# Altium integrated library TI Data Converters Analog to Digital Converter.IntLib: 2197 symbols (part 27 of 168)
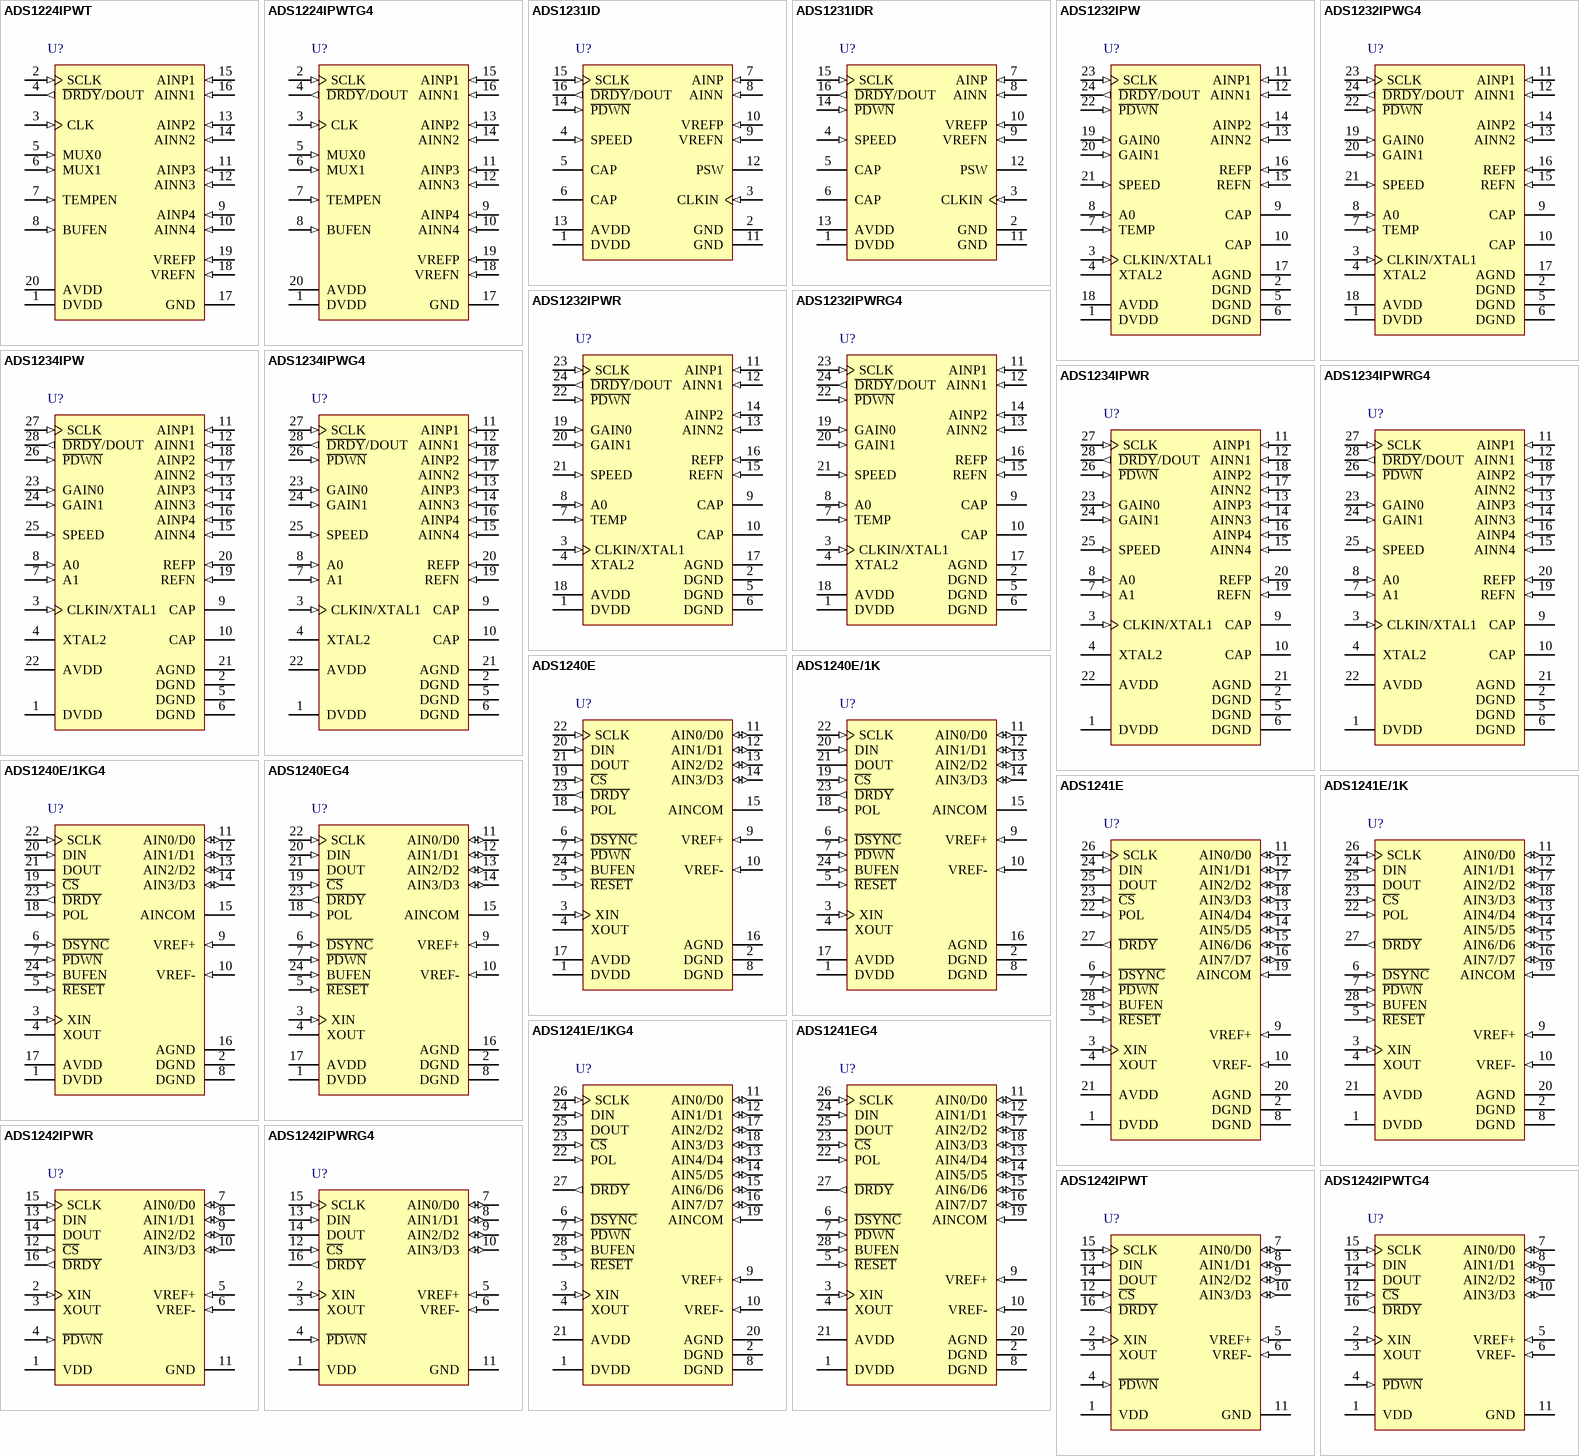
[diagram p152: symbols ADS1224IPWT to ADS1242IPWTG4]

## ADS1242IPWTG4
designator U?
24-Bit ADC, 4 Channel, PGA 1:128, 50 / 60 Hz Notch, 0.6 mW Power Consumption, -40 to 85 degC, 16-pin SOP (PW16), Green (RoHS & no Sb/Br); Manufacturer: Texas Instruments; PartNumber: ADS1242IPWTG4; # Input Channels: 4; Analog Voltage AV/DD(Max)(V): 5.25; Analog Voltage AV/DD(Min)(V): 2.7; Architecture: Delta-Sigma; Interface: Serial SPI; Resolution(Bits): 24; Sample Rate (max)(SPS): 15; SubFamily: Precision ADC (<=10MSPS); DatasheetVersion: SBAS235G; PackageVersion: 4040064-4/G, 02/2011; PackageReference: PW16; PackageDescription: 16-Pin Plastic Small Outline, Body 5 x 4.4 mm, Pitch 0.65 mm; Supplier 1: Digi-Key; Supplier Part Number 1: TLC3544CPWRG4-ND; Supplier 2: Mouser; Supplier Part Number 2: 595-TLC3544CPWRG4; Digital Supply(Max)(V): 5.25; Digital Supply(Min)(V): 2.7; Eco-Plan: Green (RoHS & no Sb/Br); Mounting Technology: Surface Mount; Code_JEDEC: MO-153; ComponentLink1Description: Manufacturer URL; ComponentLink1URL: http://www.ti.com/; ComponentLink2Description: Datasheet; ComponentLink2URL: http://www.ti.com/general/docs/lit/getliterature.tsp?genericPartNumber=ADS1242&fileType=pdf; ComponentLink3Description: Package Specification; ComponentLink3URL: http://www.ti.com/lit/ml/mpds361/mpds361.pdf
footprint TI-PW16_N (SOP, 16-Leads, Body 5x4.4mm, Pitch 0.65mm, IPC Medium Density)
footprint TI-PW16_L (SOP, 16-Leads, Body 5x4.4mm, Pitch 0.65mm, IPC High Density)
footprint TI-PW16_M (SOP, 16-Leads, Body 5x4.4mm, Pitch 0.65mm, IPC Low Density)
pins: 1 VDD (power) "Power Supply", 2 XIN (in) "Clock Input", 3 XOUT "Clock Output, used with crystal or ceramic resonator", 4 ~{PDWN} (in) "Active LOW. Power Down. The power down function shuts down the analog and digital circuits", 5 VREF+ (in) "Positive Differential Reference Input", 6 VREF- (in) "Negative Differential Reference Input", 7 AIN0/D0 (io) "Analog Input 0/Data I/O 0", 8 AIN1/D1 (io) "Analog Input 1/Data I/O 1", 9 AIN2/D2 (io) "Analog Input 2/Data I/O 2", 10 AIN3/D3 (io) "Analog Input 3/Data I/O 3", 11 GND (power) "Ground", 12 ~{CS} (in) "Active LOW, Chip Select", 13 DIN (in) "Serial Data Input, Schmitt Trigger", 14 DOUT (hiz) "Serial Data Output", 15 SCLK (in) "Serial Clock, Schmitt Trigger", 16 ~{DRDY} (out) "Active LOW, Data Ready"

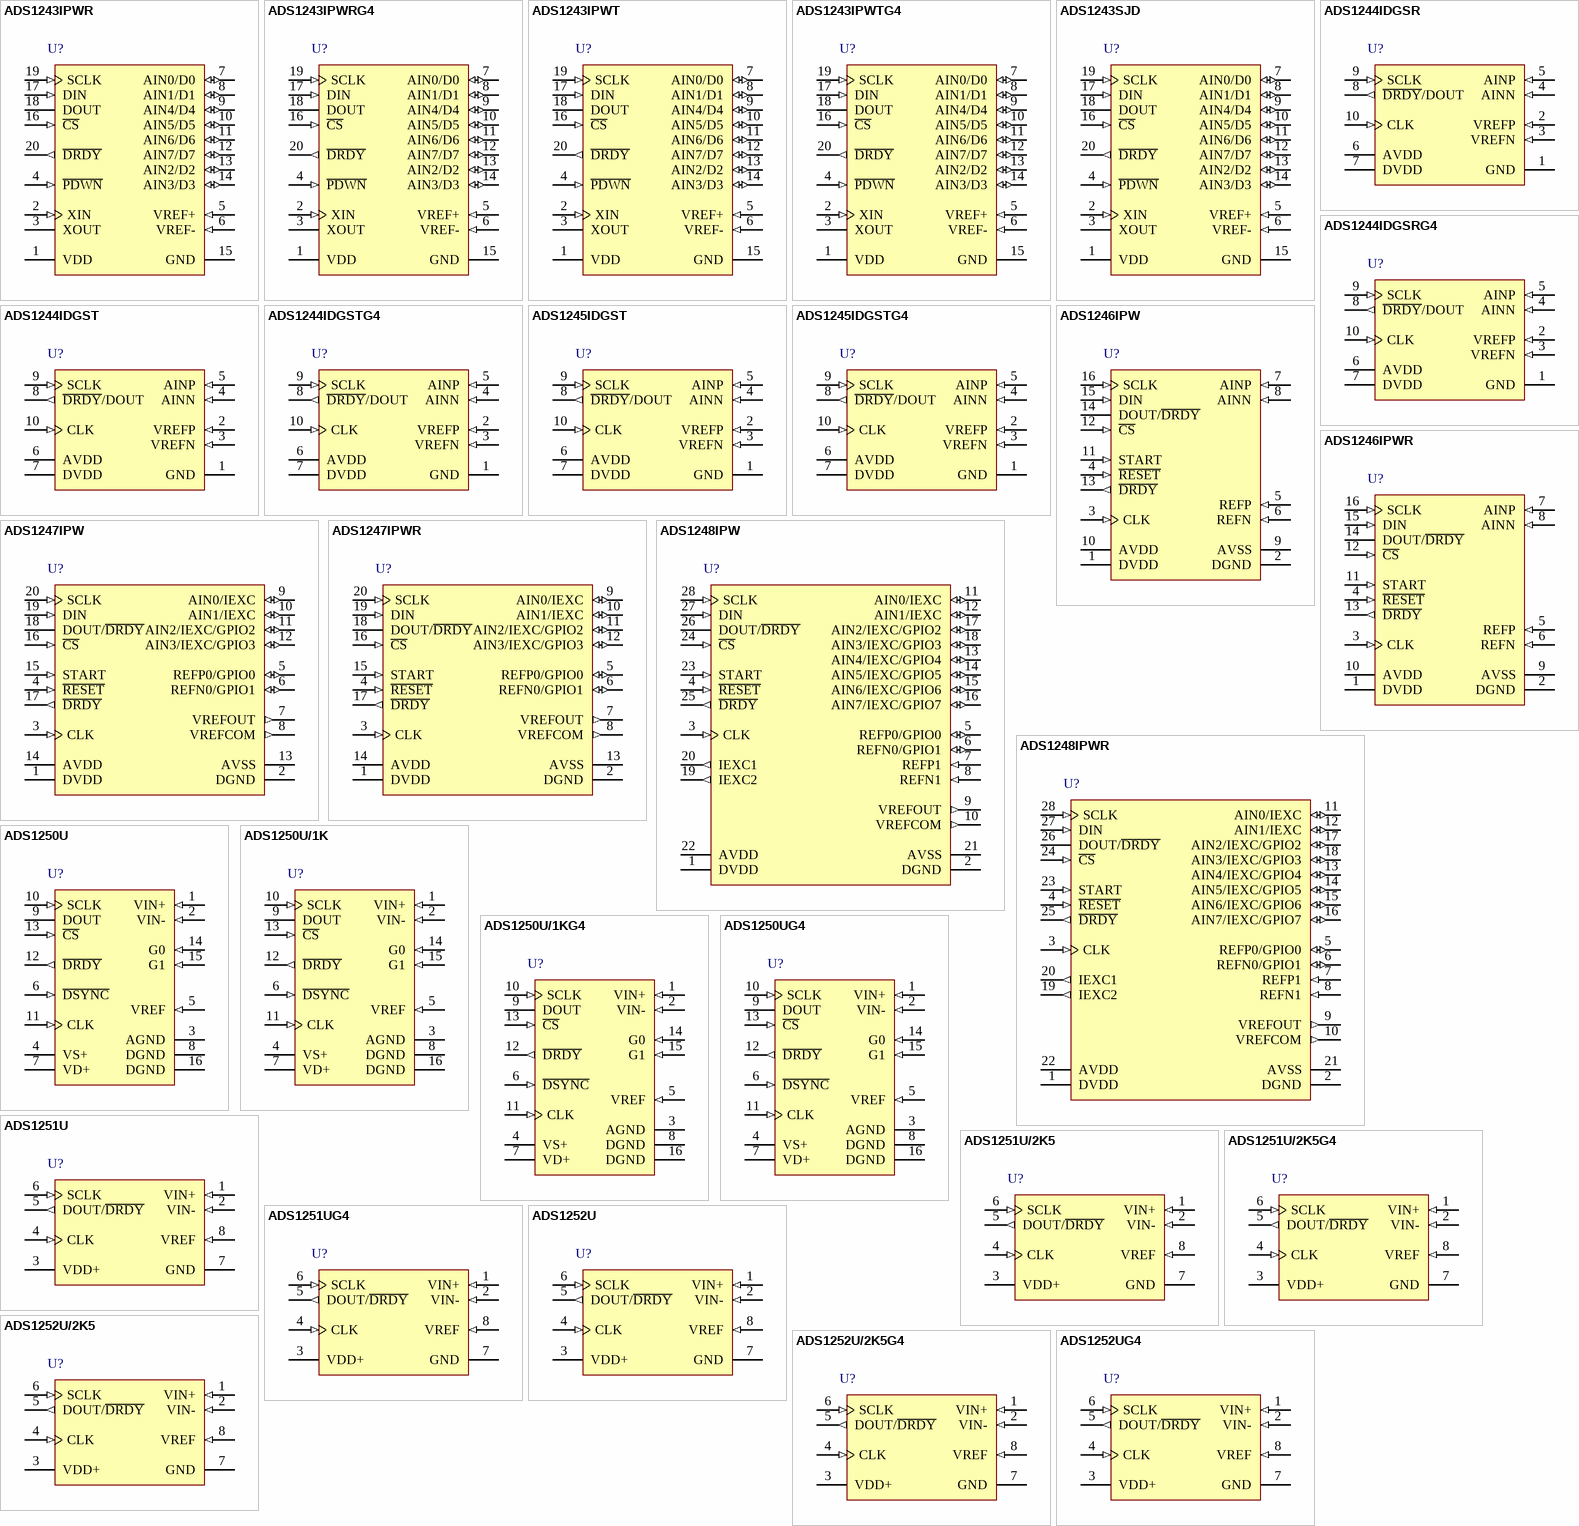
[diagram p21: symbols ADS1243IPWR to ADS1252UG4]

## ADS1243IPWR
designator U?
24-Bit ADC, 8 Channel, PGA 1:128, 50 / 60 Hz Notch, 0.6 mW Power Consumption, -40 to 85 degC, 20-pin SOP (PW20), Green (RoHS & no Sb/Br); Manufacturer: Texas Instruments; PartNumber: ADS1243IPWR; # Input Channels: 8; Analog Voltage AV/DD(Max)(V): 5.25; Analog Voltage AV/DD(Min)(V): 2.7; Architecture: Delta-Sigma; Interface: Serial SPI; Resolution(Bits): 24; Sample Rate (max)(SPS): 15; SubFamily: Precision ADC (<=10MSPS); DatasheetVersion: SBAS235G; PackageVersion: 4040064-5/G, 02/2011; PackageReference: PW20; PackageDescription: 20-Pin Plastic Small Outline, Body 6.5 x 4.4 mm, Pitch 0.65 mm; Supplier 1: Digi-Key; Supplier Part Number 1: 296-10289-5-ND; Supplier 2: Mouser; Supplier Part Number 2: 595-TLC3544IPW; Digital Supply(Max)(V): 5.25; Digital Supply(Min)(V): 2.7; Eco-Plan: Green (RoHS & no Sb/Br); Mounting Technology: Surface Mount; Code_JEDEC: MO-153; ComponentLink1Description: Manufacturer URL; ComponentLink1URL: http://www.ti.com/; ComponentLink2Description: Datasheet; ComponentLink2URL: http://www.ti.com/general/docs/lit/getliterature.tsp?genericPartNumber=ADS1243&fileType=pdf; ComponentLink3Description: Package Specification; ComponentLink3URL: http://www.ti.com.cn/cn/lit/ml/mpds362/mpds362.pdf
footprint TI-PW20_N (SOP, 20-Leads, Body 6.5x4.4mm, Pitch 0.65mm, IPC Medium Density)
footprint TI-PW20_L (SOP, 20-Leads, Body 6.5x4.4mm, Pitch 0.65mm, IPC High Density)
footprint TI-PW20_M (SOP, 20-Leads, Body 6.5x4.4mm, Pitch 0.65mm, IPC Low Density)
pins: 1 VDD (power) "Power Supply", 2 XIN (in) "Clock Input", 3 XOUT "Clock Output, used with crystal or ceramic resonator", 4 ~{PDWN} (in) "Active LOW. Power Down. The power down function shuts down the analog and digital circuits", 5 VREF+ (in) "Positive Differential Reference Input", 6 VREF- (in) "Negative Differential Reference Input", 7 AIN0/D0 (io) "Analog Input 0/Data I/O 0", 8 AIN1/D1 (io) "Analog Input 1/Data I/O 1", 9 AIN4/D4 (io) "Analog Input 4/Data I/O 4", 10 AIN5/D5 (io) "Analog Input 5/Data I/O 5", 11 AIN6/D6 (io) "Analog Input 6/Data I/O 6", 12 AIN7/D7 (io) "Analog Input 7/Data I/O 7", 13 AIN2/D2 (io) "Analog Input 2/Data I/O 2", 14 AIN3/D3 (io) "Analog Input 3/Data I/O 3", 15 GND (power) "Ground", 16 ~{CS} (in) "Active LOW, Chip Select", 17 DIN (in) "Serial Data Input, Schmitt Trigger", 18 DOUT (hiz) "Serial Data Output", 19 SCLK (in) "Serial Clock, Schmitt Trigger", 20 ~{DRDY} (out) "Active LOW, Data Ready"

## ADS1243IPWRG4
designator U?
24-Bit ADC, 8 Channel, PGA 1:128, 50 / 60 Hz Notch, 0.6 mW Power Consumption, -40 to 85 degC, 20-pin SOP (PW20), Green (RoHS & no Sb/Br); Manufacturer: Texas Instruments; PartNumber: ADS1243IPWRG4; # Input Channels: 8; Analog Voltage AV/DD(Max)(V): 5.25; Analog Voltage AV/DD(Min)(V): 2.7; Architecture: Delta-Sigma; Interface: Serial SPI; Resolution(Bits): 24; Sample Rate (max)(SPS): 15; SubFamily: Precision ADC (<=10MSPS); DatasheetVersion: SBAS235G; PackageVersion: 4040064-5/G, 02/2011; PackageReference: PW20; PackageDescription: 20-Pin Plastic Small Outline, Body 6.5 x 4.4 mm, Pitch 0.65 mm; Supplier 1: Digi-Key; Supplier Part Number 1: TLC3544IPWG4-ND; Supplier 2: Mouser; Supplier Part Number 2: 595-TLC3544IPWG4; Digital Supply(Max)(V): 5.25; Digital Supply(Min)(V): 2.7; Eco-Plan: Green (RoHS & no Sb/Br); Mounting Technology: Surface Mount; Code_JEDEC: MO-153; ComponentLink1Description: Manufacturer URL; ComponentLink1URL: http://www.ti.com/; ComponentLink2Description: Datasheet; ComponentLink2URL: http://www.ti.com/general/docs/lit/getliterature.tsp?genericPartNumber=ADS1243&fileType=pdf; ComponentLink3Description: Package Specification; ComponentLink3URL: http://www.ti.com.cn/cn/lit/ml/mpds362/mpds362.pdf
footprint TI-PW20_N (SOP, 20-Leads, Body 6.5x4.4mm, Pitch 0.65mm, IPC Medium Density)
footprint TI-PW20_L (SOP, 20-Leads, Body 6.5x4.4mm, Pitch 0.65mm, IPC High Density)
footprint TI-PW20_M (SOP, 20-Leads, Body 6.5x4.4mm, Pitch 0.65mm, IPC Low Density)
pins: 1 VDD (power) "Power Supply", 2 XIN (in) "Clock Input", 3 XOUT "Clock Output, used with crystal or ceramic resonator", 4 ~{PDWN} (in) "Active LOW. Power Down. The power down function shuts down the analog and digital circuits", 5 VREF+ (in) "Positive Differential Reference Input", 6 VREF- (in) "Negative Differential Reference Input", 7 AIN0/D0 (io) "Analog Input 0/Data I/O 0", 8 AIN1/D1 (io) "Analog Input 1/Data I/O 1", 9 AIN4/D4 (io) "Analog Input 4/Data I/O 4", 10 AIN5/D5 (io) "Analog Input 5/Data I/O 5", 11 AIN6/D6 (io) "Analog Input 6/Data I/O 6", 12 AIN7/D7 (io) "Analog Input 7/Data I/O 7", 13 AIN2/D2 (io) "Analog Input 2/Data I/O 2", 14 AIN3/D3 (io) "Analog Input 3/Data I/O 3", 15 GND (power) "Ground", 16 ~{CS} (in) "Active LOW, Chip Select", 17 DIN (in) "Serial Data Input, Schmitt Trigger", 18 DOUT (hiz) "Serial Data Output", 19 SCLK (in) "Serial Clock, Schmitt Trigger", 20 ~{DRDY} (out) "Active LOW, Data Ready"

## ADS1243IPWT
designator U?
24-Bit ADC, 8 Channel, PGA 1:128, 50 / 60 Hz Notch, 0.6 mW Power Consumption, -40 to 85 degC, 20-pin SOP (PW20), Green (RoHS & no Sb/Br); Manufacturer: Texas Instruments; PartNumber: ADS1243IPWT; # Input Channels: 8; Analog Voltage AV/DD(Max)(V): 5.25; Analog Voltage AV/DD(Min)(V): 2.7; Architecture: Delta-Sigma; Interface: Serial SPI; Resolution(Bits): 24; Sample Rate (max)(SPS): 15; SubFamily: Precision ADC (<=10MSPS); DatasheetVersion: SBAS235G; PackageVersion: 4040064-5/G, 02/2011; PackageReference: PW20; PackageDescription: 20-Pin Plastic Small Outline, Body 6.5 x 4.4 mm, Pitch 0.65 mm; Supplier 1: Digi-Key; Supplier Part Number 1: 296-2871-5-ND; Supplier 2: Mouser; Supplier Part Number 2: 595-TLC1518IPW; Digital Supply(Max)(V): 5.25; Digital Supply(Min)(V): 2.7; Eco-Plan: Green (RoHS & no Sb/Br); Mounting Technology: Surface Mount; Code_JEDEC: MO-153; ComponentLink1Description: Manufacturer URL; ComponentLink1URL: http://www.ti.com/; ComponentLink2Description: Datasheet; ComponentLink2URL: http://www.ti.com/general/docs/lit/getliterature.tsp?genericPartNumber=ADS1243&fileType=pdf; ComponentLink3Description: Package Specification; ComponentLink3URL: http://www.ti.com.cn/cn/lit/ml/mpds362/mpds362.pdf
footprint TI-PW20_N (SOP, 20-Leads, Body 6.5x4.4mm, Pitch 0.65mm, IPC Medium Density)
footprint TI-PW20_L (SOP, 20-Leads, Body 6.5x4.4mm, Pitch 0.65mm, IPC High Density)
footprint TI-PW20_M (SOP, 20-Leads, Body 6.5x4.4mm, Pitch 0.65mm, IPC Low Density)
pins: 1 VDD (power) "Power Supply", 2 XIN (in) "Clock Input", 3 XOUT "Clock Output, used with crystal or ceramic resonator", 4 ~{PDWN} (in) "Active LOW. Power Down. The power down function shuts down the analog and digital circuits", 5 VREF+ (in) "Positive Differential Reference Input", 6 VREF- (in) "Negative Differential Reference Input", 7 AIN0/D0 (io) "Analog Input 0/Data I/O 0", 8 AIN1/D1 (io) "Analog Input 1/Data I/O 1", 9 AIN4/D4 (io) "Analog Input 4/Data I/O 4", 10 AIN5/D5 (io) "Analog Input 5/Data I/O 5", 11 AIN6/D6 (io) "Analog Input 6/Data I/O 6", 12 AIN7/D7 (io) "Analog Input 7/Data I/O 7", 13 AIN2/D2 (io) "Analog Input 2/Data I/O 2", 14 AIN3/D3 (io) "Analog Input 3/Data I/O 3", 15 GND (power) "Ground", 16 ~{CS} (in) "Active LOW, Chip Select", 17 DIN (in) "Serial Data Input, Schmitt Trigger", 18 DOUT (hiz) "Serial Data Output", 19 SCLK (in) "Serial Clock, Schmitt Trigger", 20 ~{DRDY} (out) "Active LOW, Data Ready"

## ADS1243IPWTG4
designator U?
24-Bit ADC, 8 Channel, PGA 1:128, 50 / 60 Hz Notch, 0.6 mW Power Consumption, -40 to 85 degC, 20-pin SOP (PW20), Green (RoHS & no Sb/Br); Manufacturer: Texas Instruments; PartNumber: ADS1243IPWTG4; # Input Channels: 8; Analog Voltage AV/DD(Max)(V): 5.25; Analog Voltage AV/DD(Min)(V): 2.7; Architecture: Delta-Sigma; Interface: Serial SPI; Resolution(Bits): 24; Sample Rate (max)(SPS): 15; SubFamily: Precision ADC (<=10MSPS); DatasheetVersion: SBAS235G; PackageVersion: 4040064-5/G, 02/2011; PackageReference: PW20; PackageDescription: 20-Pin Plastic Small Outline, Body 6.5 x 4.4 mm, Pitch 0.65 mm; Supplier 1: Digi-Key; Supplier Part Number 1: TLC1518IPWG4-ND; Supplier 2: Mouser; Supplier Part Number 2: 595-TLC1518IPWG4; Digital Supply(Max)(V): 5.25; Digital Supply(Min)(V): 2.7; Eco-Plan: Green (RoHS & no Sb/Br); Mounting Technology: Surface Mount; Code_JEDEC: MO-153; ComponentLink1Description: Manufacturer URL; ComponentLink1URL: http://www.ti.com/; ComponentLink2Description: Datasheet; ComponentLink2URL: http://www.ti.com/general/docs/lit/getliterature.tsp?genericPartNumber=ADS1243&fileType=pdf; ComponentLink3Description: Package Specification; ComponentLink3URL: http://www.ti.com.cn/cn/lit/ml/mpds362/mpds362.pdf
footprint TI-PW20_N (SOP, 20-Leads, Body 6.5x4.4mm, Pitch 0.65mm, IPC Medium Density)
footprint TI-PW20_L (SOP, 20-Leads, Body 6.5x4.4mm, Pitch 0.65mm, IPC High Density)
footprint TI-PW20_M (SOP, 20-Leads, Body 6.5x4.4mm, Pitch 0.65mm, IPC Low Density)
pins: 1 VDD (power) "Power Supply", 2 XIN (in) "Clock Input", 3 XOUT "Clock Output, used with crystal or ceramic resonator", 4 ~{PDWN} (in) "Active LOW. Power Down. The power down function shuts down the analog and digital circuits", 5 VREF+ (in) "Positive Differential Reference Input", 6 VREF- (in) "Negative Differential Reference Input", 7 AIN0/D0 (io) "Analog Input 0/Data I/O 0", 8 AIN1/D1 (io) "Analog Input 1/Data I/O 1", 9 AIN4/D4 (io) "Analog Input 4/Data I/O 4", 10 AIN5/D5 (io) "Analog Input 5/Data I/O 5", 11 AIN6/D6 (io) "Analog Input 6/Data I/O 6", 12 AIN7/D7 (io) "Analog Input 7/Data I/O 7", 13 AIN2/D2 (io) "Analog Input 2/Data I/O 2", 14 AIN3/D3 (io) "Analog Input 3/Data I/O 3", 15 GND (power) "Ground", 16 ~{CS} (in) "Active LOW, Chip Select", 17 DIN (in) "Serial Data Input, Schmitt Trigger", 18 DOUT (hiz) "Serial Data Output", 19 SCLK (in) "Serial Clock, Schmitt Trigger", 20 ~{DRDY} (out) "Active LOW, Data Ready"

## ADS1243SJD
designator U?
High Temperature 24-Bit ADC, 8 Channel, PGA 1:128, 50 / 60 Hz Notch, -55 to 210 degC, 20-pin DIP (JD20); Manufacturer: Texas Instruments; PartNumber: ADS1243SJD; # Input Channels: 8; Analog Voltage AV/DD(Max)(V): 5.25; Analog Voltage AV/DD(Min)(V): 4.75; Architecture: Delta-Sigma; Digital Supply(Min)(V): 2.7; Interface: Serial SPI; Resolution(Bits): 24; Sample Rate (max)(SPS): 15; SubFamily: Precision ADC (<=10MSPS); DatasheetVersion: SBAS525; PackageVersion: 4040086-2/F, 07/2003; PackageReference: JD20; PackageDescription: 20-Pin Ceramic, Metal In-Line, Body 25.65 x 7.37 mm, Pitch 2.54 mm; Supplier 1: Digi-Key; Supplier Part Number 1: 296-2956-5-ND; Supplier 2: Mouser; Supplier Part Number 2: 595-TLV1508IPW; Digital Supply(Max)(V): 5.25; Mounting Technology: Through Hole; ComponentLink1Description: Manufacturer URL; ComponentLink1URL: http://www.ti.com/; ComponentLink2Description: Datasheet; ComponentLink2URL: http://www.ti.com/general/docs/lit/getliterature.tsp?genericPartNumber=ADS1243-HT&fileType=pdf; ComponentLink3Description: Package Specification; ComponentLink3URL: http://www-s.ti.com/sc/psheets/mcdi001d/mcdi001d.pdf
footprint TI-JD20 (DIP, 20-Leads, Body 25.65x7.37mm, Pitch 2.54mm)
pins: 1 VDD (power) "Power Supply", 2 XIN (in) "Clock Input", 3 XOUT "Clock Output, used with crystal or ceramic resonator", 4 ~{PDWN} (in) "Active LOW. Power Down. The power down function shuts down the analog and digital circuits", 5 VREF+ (in) "Positive Differential Reference Input", 6 VREF- (in) "Negative Differential Reference Input", 7 AIN0/D0 (io) "Analog Input 0/Data I/O 0", 8 AIN1/D1 (io) "Analog Input 1/Data I/O 1", 9 AIN4/D4 (io) "Analog Input 4/Data I/O 4", 10 AIN5/D5 (io) "Analog Input 5/Data I/O 5", 11 AIN6/D6 (io) "Analog Input 6/Data I/O 6", 12 AIN7/D7 (io) "Analog Input 7/Data I/O 7", 13 AIN2/D2 (io) "Analog Input 2/Data I/O 2", 14 AIN3/D3 (io) "Analog Input 3/Data I/O 3", 15 GND (power) "Ground", 16 ~{CS} (in) "Active LOW, Chip Select", 17 DIN (in) "Serial Data Input, Schmitt Trigger", 18 DOUT (hiz) "Serial Data Output", 19 SCLK (in) "Serial Clock, Schmitt Trigger", 20 ~{DRDY} (out) "Active LOW, Data Ready"

## ADS1244IDGSR
designator U?
24-Bit 15 SPS Delta-Sigma ADC with 50 & 60 Hz Rejection, -40 to 85 degC, 10-pin SOP (DGS10), Green (RoHS & no Sb/Br); Manufacturer: Texas Instruments; PartNumber: ADS1244IDGSR; # Input Channels: 1; Analog Voltage AV/DD(Max)(V): 5.25; Analog Voltage AV/DD(Min)(V): 2.5; Digital Supply(Max)(V): 3.6; Digital Supply(Min)(V): 1.8; Interface: Serial SPI; Resolution(Bits): 24; Sample Rate (max)(SPS): 30; SubFamily: Precision ADC (<=10MSPS); DatasheetVersion: SBAS273; PackageVersion: 4073272/C, 02/2004; PackageReference: DGS10; PackageDescription: 10-Pin Plastic Small Outline, Body 3 x 3 mm, Pitch 0.5 mm; Supplier 1: Digi-Key; Supplier Part Number 1: TLV1508IPWG4-ND; Supplier 2: Mouser; Supplier Part Number 2: 595-TLV1508IPWG4; Architecture: Delta-Sigma; Eco-Plan: Green (RoHS & no Sb/Br); Mounting Technology: Surface Mount; Code_JEDEC: MO-153; ComponentLink1Description: Manufacturer URL; ComponentLink1URL: http://www.ti.com/; ComponentLink2Description: Datasheet; ComponentLink2URL: http://www.ti.com/general/docs/lit/getliterature.tsp?genericPartNumber=ADS1244&fileType=pdf; ComponentLink3Description: Package Specification; ComponentLink3URL: http://www.ti.com/lit/ml/mpds035b/mpds035b.pdf
footprint TI-DGS10_N (SOP, 10-Leads, Body 3x3mm, Pitch 0.5mm, IPC Medium Density)
footprint TI-DGS10_L (SOP, 10-Leads, Body 3x3mm, Pitch 0.5mm, IPC High Density)
footprint TI-DGS10_M (SOP, 10-Leads, Body 3x3mm, Pitch 0.5mm, IPC Low Density)
pins: 1 GND (power) "Analog and digital ground", 2 VREFP (in) "Positive reference input", 3 VREFN (in) "Negative reference input", 4 AINN (in) "Negative analog input", 5 AINP (in) "Positive analog input", 6 AVDD (power) "Analog power supply, 2.5V to 5.25V", 7 DVDD (power) "Digital power supply, 1.8V to 3.6V", 8 ~{DRDY}/DOUT (out) "Dual-purpose output:Data ready: indicates valid data by going low. Data output: outputs data, MSB first, on the first rising edge of SCLK.", 9 SCLK (in) "Serial clock input: clocks out data on the rising edge. Used to initiate calibration and Sleep mode (see text for more details).", 10 CLK (in) "System clock input: typically 2.4576MHz"

## ADS1244IDGSRG4
designator U?
24-Bit 15 SPS Delta-Sigma ADC with 50 & 60 Hz Rejection, -40 to 85 degC, 10-pin SOP (DGS10), Green (RoHS & no Sb/Br); Manufacturer: Texas Instruments; PartNumber: ADS1244IDGSRG4; # Input Channels: 1; Analog Voltage AV/DD(Max)(V): 5.25; Analog Voltage AV/DD(Min)(V): 2.5; Digital Supply(Max)(V): 3.6; Digital Supply(Min)(V): 1.8; Interface: Serial SPI; Resolution(Bits): 24; Sample Rate (max)(SPS): 30; SubFamily: Precision ADC (<=10MSPS); DatasheetVersion: SBAS273; PackageVersion: 4073272/C, 02/2004; PackageReference: DGS10; PackageDescription: 10-Pin Plastic Small Outline, Body 3 x 3 mm, Pitch 0.5 mm; Supplier 1: Digi-Key; Supplier Part Number 1: TLV1508IPWR-ND; Supplier 2: Mouser; Supplier Part Number 2: 595-TLV1508IPWR; Architecture: Delta-Sigma; Eco-Plan: Green (RoHS & no Sb/Br); Mounting Technology: Surface Mount; Code_JEDEC: MO-153; ComponentLink1Description: Manufacturer URL; ComponentLink1URL: http://www.ti.com/; ComponentLink2Description: Datasheet; ComponentLink2URL: http://www.ti.com/general/docs/lit/getliterature.tsp?genericPartNumber=ADS1244&fileType=pdf; ComponentLink3Description: Package Specification; ComponentLink3URL: http://www.ti.com/lit/ml/mpds035b/mpds035b.pdf
footprint TI-DGS10_N (SOP, 10-Leads, Body 3x3mm, Pitch 0.5mm, IPC Medium Density)
footprint TI-DGS10_L (SOP, 10-Leads, Body 3x3mm, Pitch 0.5mm, IPC High Density)
footprint TI-DGS10_M (SOP, 10-Leads, Body 3x3mm, Pitch 0.5mm, IPC Low Density)
pins: 1 GND (power) "Analog and digital ground", 2 VREFP (in) "Positive reference input", 3 VREFN (in) "Negative reference input", 4 AINN (in) "Negative analog input", 5 AINP (in) "Positive analog input", 6 AVDD (power) "Analog power supply, 2.5V to 5.25V", 7 DVDD (power) "Digital power supply, 1.8V to 3.6V", 8 ~{DRDY}/DOUT (out) "Dual-purpose output:Data ready: indicates valid data by going low. Data output: outputs data, MSB first, on the first rising edge of SCLK.", 9 SCLK (in) "Serial clock input: clocks out data on the rising edge. Used to initiate calibration and Sleep mode (see text for more details).", 10 CLK (in) "System clock input: typically 2.4576MHz"

## ADS1244IDGST
designator U?
24-Bit 15 SPS Delta-Sigma ADC with 50 & 60 Hz Rejection, -40 to 85 degC, 10-pin SOP (DGS10), Green (RoHS & no Sb/Br); Manufacturer: Texas Instruments; PartNumber: ADS1244IDGST; # Input Channels: 1; Analog Voltage AV/DD(Max)(V): 5.25; Analog Voltage AV/DD(Min)(V): 2.5; Digital Supply(Max)(V): 3.6; Digital Supply(Min)(V): 1.8; Interface: Serial SPI; Resolution(Bits): 24; Sample Rate (max)(SPS): 30; SubFamily: Precision ADC (<=10MSPS); DatasheetVersion: SBAS273; PackageVersion: 4073272/C, 02/2004; PackageReference: DGS10; PackageDescription: 10-Pin Plastic Small Outline, Body 3 x 3 mm, Pitch 0.5 mm; Supplier 1: Digi-Key; Supplier Part Number 1: TLV1508IPWRG4-ND; Supplier 2: Mouser; Supplier Part Number 2: 595-TLV1508IPWRG4; Architecture: Delta-Sigma; Eco-Plan: Green (RoHS & no Sb/Br); Mounting Technology: Surface Mount; Code_JEDEC: MO-153; ComponentLink1Description: Manufacturer URL; ComponentLink1URL: http://www.ti.com/; ComponentLink2Description: Datasheet; ComponentLink2URL: http://www.ti.com/general/docs/lit/getliterature.tsp?genericPartNumber=ADS1244&fileType=pdf; ComponentLink3Description: Package Specification; ComponentLink3URL: http://www.ti.com/lit/ml/mpds035b/mpds035b.pdf
footprint TI-DGS10_N (SOP, 10-Leads, Body 3x3mm, Pitch 0.5mm, IPC Medium Density)
footprint TI-DGS10_L (SOP, 10-Leads, Body 3x3mm, Pitch 0.5mm, IPC High Density)
footprint TI-DGS10_M (SOP, 10-Leads, Body 3x3mm, Pitch 0.5mm, IPC Low Density)
pins: 1 GND (power) "Analog and digital ground", 2 VREFP (in) "Positive reference input", 3 VREFN (in) "Negative reference input", 4 AINN (in) "Negative analog input", 5 AINP (in) "Positive analog input", 6 AVDD (power) "Analog power supply, 2.5V to 5.25V", 7 DVDD (power) "Digital power supply, 1.8V to 3.6V", 8 ~{DRDY}/DOUT (out) "Dual-purpose output:Data ready: indicates valid data by going low. Data output: outputs data, MSB first, on the first rising edge of SCLK.", 9 SCLK (in) "Serial clock input: clocks out data on the rising edge. Used to initiate calibration and Sleep mode (see text for more details).", 10 CLK (in) "System clock input: typically 2.4576MHz"

## ADS1244IDGSTG4
designator U?
24-Bit 15 SPS Delta-Sigma ADC with 50 & 60 Hz Rejection, -40 to 85 degC, 10-pin SOP (DGS10), Green (RoHS & no Sb/Br); Manufacturer: Texas Instruments; PartNumber: ADS1244IDGSTG4; # Input Channels: 1; Analog Voltage AV/DD(Max)(V): 5.25; Analog Voltage AV/DD(Min)(V): 2.5; Digital Supply(Max)(V): 3.6; Digital Supply(Min)(V): 1.8; Interface: Serial SPI; Resolution(Bits): 24; Sample Rate (max)(SPS): 30; SubFamily: Precision ADC (<=10MSPS); DatasheetVersion: SBAS273; PackageVersion: 4073272/C, 02/2004; PackageReference: DGS10; PackageDescription: 10-Pin Plastic Small Outline, Body 3 x 3 mm, Pitch 0.5 mm; Supplier 1: Digi-Key; Supplier Part Number 1: 296-2918-5-ND; Supplier 2: Mouser; Supplier Part Number 2: 595-TLC2558IPW; Architecture: Delta-Sigma; Eco-Plan: Green (RoHS & no Sb/Br); Mounting Technology: Surface Mount; Code_JEDEC: MO-153; ComponentLink1Description: Manufacturer URL; ComponentLink1URL: http://www.ti.com/; ComponentLink2Description: Datasheet; ComponentLink2URL: http://www.ti.com/general/docs/lit/getliterature.tsp?genericPartNumber=ADS1244&fileType=pdf; ComponentLink3Description: Package Specification; ComponentLink3URL: http://www.ti.com/lit/ml/mpds035b/mpds035b.pdf
footprint TI-DGS10_N (SOP, 10-Leads, Body 3x3mm, Pitch 0.5mm, IPC Medium Density)
footprint TI-DGS10_L (SOP, 10-Leads, Body 3x3mm, Pitch 0.5mm, IPC High Density)
footprint TI-DGS10_M (SOP, 10-Leads, Body 3x3mm, Pitch 0.5mm, IPC Low Density)
pins: 1 GND (power) "Analog and digital ground", 2 VREFP (in) "Positive reference input", 3 VREFN (in) "Negative reference input", 4 AINN (in) "Negative analog input", 5 AINP (in) "Positive analog input", 6 AVDD (power) "Analog power supply, 2.5V to 5.25V", 7 DVDD (power) "Digital power supply, 1.8V to 3.6V", 8 ~{DRDY}/DOUT (out) "Dual-purpose output:Data ready: indicates valid data by going low. Data output: outputs data, MSB first, on the first rising edge of SCLK.", 9 SCLK (in) "Serial clock input: clocks out data on the rising edge. Used to initiate calibration and Sleep mode (see text for more details).", 10 CLK (in) "System clock input: typically 2.4576MHz"

## ADS1245IDGST
designator U?
24-Bit Low-Power ADC with High-Z Input Buffer, -40 to 85 degC, 10-pin SOP (DGS10), Green (RoHS & no Sb/Br); Manufacturer: Texas Instruments; PartNumber: ADS1245IDGST; # Input Channels: 1; Analog Voltage AV/DD(Max)(V): 5.25; Analog Voltage AV/DD(Min)(V): 2.5; Architecture: Delta-Sigma; Digital Supply(Max)(V): 3.6; Digital Supply(Min)(V): 1.8; Interface: Serial SPI; Resolution(Bits): 24; Sample Rate (max)(SPS): 15; SubFamily: Precision ADC (<=10MSPS); DatasheetVersion: SBAS287A; PackageVersion: 4073272/C, 02/2004; PackageReference: DGS10; PackageDescription: 10-Pin Plastic Small Outline, Body 3 x 3 mm, Pitch 0.5 mm; Supplier 1: Digi-Key; Supplier Part Number 1: TLC2558IPWG4-ND; Supplier 2: Mouser; Supplier Part Number 2: 595-TLC2558IPWG4; Eco-Plan: Green (RoHS & no Sb/Br); Mounting Technology: Surface Mount; Code_JEDEC: MO-153; ComponentLink1Description: Manufacturer URL; ComponentLink1URL: http://www.ti.com/; ComponentLink2Description: Datasheet; ComponentLink2URL: http://www.ti.com/general/docs/lit/getliterature.tsp?genericPartNumber=ADS1245&fileType=pdf; ComponentLink3Description: Package Specification; ComponentLink3URL: http://www.ti.com/lit/ml/mpds035b/mpds035b.pdf
footprint TI-DGS10_N (SOP, 10-Leads, Body 3x3mm, Pitch 0.5mm, IPC Medium Density)
footprint TI-DGS10_L (SOP, 10-Leads, Body 3x3mm, Pitch 0.5mm, IPC High Density)
footprint TI-DGS10_M (SOP, 10-Leads, Body 3x3mm, Pitch 0.5mm, IPC Low Density)
pins: 1 GND (power) "Analog and digital ground", 2 VREFP (in) "Positive reference input", 3 VREFN (in) "Negative reference input", 4 AINN (in) "Negative analog input", 5 AINP (in) "Positive analog input", 6 AVDD (power) "Analog power supply, 2.5V to 5.25V", 7 DVDD (power) "Digital power supply, 1.8V to 3.6V", 8 ~{DRDY}/DOUT (out) "Dual-purpose output:Data ready: indicates valid data by going low. Data output: outputs data, MSB first, on the first rising edge of SCLK.", 9 SCLK (in) "Serial clock input: clocks out data on the rising edge. Used to initiate calibration and Sleep mode (see text for more details).", 10 CLK (in) "System clock input: typically 2.4576MHz"

## ADS1245IDGSTG4
designator U?
24-Bit Low-Power ADC with High-Z Input Buffer, -40 to 85 degC, 10-pin SOP (DGS10), Green (RoHS & no Sb/Br); Manufacturer: Texas Instruments; PartNumber: ADS1245IDGSTG4; # Input Channels: 1; Analog Voltage AV/DD(Max)(V): 5.25; Analog Voltage AV/DD(Min)(V): 2.5; Architecture: Delta-Sigma; Digital Supply(Max)(V): 3.6; Digital Supply(Min)(V): 1.8; Interface: Serial SPI; Resolution(Bits): 24; Sample Rate (max)(SPS): 15; SubFamily: Precision ADC (<=10MSPS); DatasheetVersion: SBAS287A; PackageVersion: 4073272/C, 02/2004; PackageReference: DGS10; PackageDescription: 10-Pin Plastic Small Outline, Body 3 x 3 mm, Pitch 0.5 mm; Supplier 1: Digi-Key; Supplier Part Number 1: TLC2558IPWR-ND; Supplier 2: Mouser; Supplier Part Number 2: 595-TLC2558IPWR; Eco-Plan: Green (RoHS & no Sb/Br); Mounting Technology: Surface Mount; Code_JEDEC: MO-153; ComponentLink1Description: Manufacturer URL; ComponentLink1URL: http://www.ti.com/; ComponentLink2Description: Datasheet; ComponentLink2URL: http://www.ti.com/general/docs/lit/getliterature.tsp?genericPartNumber=ADS1245&fileType=pdf; ComponentLink3Description: Package Specification; ComponentLink3URL: http://www.ti.com/lit/ml/mpds035b/mpds035b.pdf
footprint TI-DGS10_N (SOP, 10-Leads, Body 3x3mm, Pitch 0.5mm, IPC Medium Density)
footprint TI-DGS10_L (SOP, 10-Leads, Body 3x3mm, Pitch 0.5mm, IPC High Density)
footprint TI-DGS10_M (SOP, 10-Leads, Body 3x3mm, Pitch 0.5mm, IPC Low Density)
pins: 1 GND (power) "Analog and digital ground", 2 VREFP (in) "Positive reference input", 3 VREFN (in) "Negative reference input", 4 AINN (in) "Negative analog input", 5 AINP (in) "Positive analog input", 6 AVDD (power) "Analog power supply, 2.5V to 5.25V", 7 DVDD (power) "Digital power supply, 1.8V to 3.6V", 8 ~{DRDY}/DOUT (out) "Dual-purpose output:Data ready: indicates valid data by going low. Data output: outputs data, MSB first, on the first rising edge of SCLK.", 9 SCLK (in) "Serial clock input: clocks out data on the rising edge. Used to initiate calibration and Sleep mode (see text for more details).", 10 CLK (in) "System clock input: typically 2.4576MHz"

## ADS1246IPW
designator U?
Low Noise, Precision 24-Bit ADC, -40 to 105 degC, 16-pin SOP (PW16), Green (RoHS & no Sb/Br); Manufacturer: Texas Instruments; PartNumber: ADS1246IPW; # Input Channels: 1; Analog Voltage AV/DD(Max)(V): 5.25; Analog Voltage AV/DD(Min)(V): 2.7; Architecture: Delta-Sigma; Interface: Serial SPI; Resolution(Bits): 24; Sample Rate (max)(SPS): 2k; SubFamily: Precision ADC (<=10MSPS); DatasheetVersion: SBAS426G; PackageVersion: 4040064-4/G, 02/2011; PackageReference: PW16; PackageDescription: 16-Pin Plastic Small Outline, Body 5 x 4.4 mm, Pitch 0.65 mm; Supplier 1: Digi-Key; Supplier Part Number 1: TLC2558IPWRG4-ND; Supplier 2: Mouser; Supplier Part Number 2: 595-TLC2558IPWRG4; Digital Supply(Max)(V): 5.25; Digital Supply(Min)(V): 2.7; Eco-Plan: Green (RoHS & no Sb/Br); Mounting Technology: Surface Mount; Code_JEDEC: MO-153; ComponentLink1Description: Manufacturer URL; ComponentLink1URL: http://www.ti.com/; ComponentLink2Description: Datasheet; ComponentLink2URL: http://www.ti.com/general/docs/lit/getliterature.tsp?genericPartNumber=ADS1246&fileType=pdf; ComponentLink3Description: Package Specification; ComponentLink3URL: http://www.ti.com/lit/ml/mpds361/mpds361.pdf
footprint TI-PW16_N (SOP, 16-Leads, Body 5x4.4mm, Pitch 0.65mm, IPC Medium Density)
footprint TI-PW16_L (SOP, 16-Leads, Body 5x4.4mm, Pitch 0.65mm, IPC High Density)
footprint TI-PW16_M (SOP, 16-Leads, Body 5x4.4mm, Pitch 0.65mm, IPC Low Density)
pins: 1 DVDD (power) "Digital power supply", 2 DGND (power) "Digital ground", 3 CLK (in) "External clock input. Tie this pin to DGND to activate the internal oscillator.", 4 ~{RESET} (in) "Chip reset (active low). Returns all register values to reset values.", 5 REFP (in) "Positive external reference input", 6 REFN (in) "Negative external reference input", 7 AINP (in) "Positive analog input", 8 AINN (in) "Negative analog input", 9 AVSS (power) "Negative analog power supply", 10 AVDD (power) "Positive analog power supply", 11 START (in) "Conversion start. See text for description of use.", 12 ~{CS} (in) "Chip select (active low)", 13 ~{DRDY} (out) "Data ready (active low)", 14 DOUT/~{DRDY} (hiz) "Serial data out output, or data out combined with data ready (active low when D\R\D\Y\ function enabled)", 15 DIN (in) "Serial data input", 16 SCLK (in) "Serial clock input"

## ADS1246IPWR
designator U?
Low Noise, Precision 24-Bit ADC, -40 to 105 degC, 16-pin SOP (PW16), Green (RoHS & no Sb/Br); Manufacturer: Texas Instruments; PartNumber: ADS1246IPWR; # Input Channels: 1; Analog Voltage AV/DD(Max)(V): 5.25; Analog Voltage AV/DD(Min)(V): 2.7; Architecture: Delta-Sigma; Interface: Serial SPI; Resolution(Bits): 24; Sample Rate (max)(SPS): 2k; SubFamily: Precision ADC (<=10MSPS); DatasheetVersion: SBAS426G; PackageVersion: 4040064-4/G, 02/2011; PackageReference: PW16; PackageDescription: 16-Pin Plastic Small Outline, Body 5 x 4.4 mm, Pitch 0.65 mm; Supplier 1: Digi-Key; Supplier Part Number 1: 296-10257-5-ND; Supplier 2: Mouser; Supplier Part Number 2: 595-TLC2578IDW; Digital Supply(Max)(V): 5.25; Digital Supply(Min)(V): 2.7; Eco-Plan: Green (RoHS & no Sb/Br); Mounting Technology: Surface Mount; Code_JEDEC: MO-153; ComponentLink1Description: Manufacturer URL; ComponentLink1URL: http://www.ti.com/; ComponentLink2Description: Datasheet; ComponentLink2URL: http://www.ti.com/general/docs/lit/getliterature.tsp?genericPartNumber=ADS1246&fileType=pdf; ComponentLink3Description: Package Specification; ComponentLink3URL: http://www.ti.com/lit/ml/mpds361/mpds361.pdf
footprint TI-PW16_N (SOP, 16-Leads, Body 5x4.4mm, Pitch 0.65mm, IPC Medium Density)
footprint TI-PW16_L (SOP, 16-Leads, Body 5x4.4mm, Pitch 0.65mm, IPC High Density)
footprint TI-PW16_M (SOP, 16-Leads, Body 5x4.4mm, Pitch 0.65mm, IPC Low Density)
pins: 1 DVDD (power) "Digital power supply", 2 DGND (power) "Digital ground", 3 CLK (in) "External clock input. Tie this pin to DGND to activate the internal oscillator.", 4 ~{RESET} (in) "Chip reset (active low). Returns all register values to reset values.", 5 REFP (in) "Positive external reference input", 6 REFN (in) "Negative external reference input", 7 AINP (in) "Positive analog input", 8 AINN (in) "Negative analog input", 9 AVSS (power) "Negative analog power supply", 10 AVDD (power) "Positive analog power supply", 11 START (in) "Conversion start. See text for description of use.", 12 ~{CS} (in) "Chip select (active low)", 13 ~{DRDY} (out) "Data ready (active low)", 14 DOUT/~{DRDY} (hiz) "Serial data out output, or data out combined with data ready (active low when D\R\D\Y\ function enabled)", 15 DIN (in) "Serial data input", 16 SCLK (in) "Serial clock input"

## ADS1247IPW
designator U?
Low Noise, Precision 24-Bit ADC, -40 to 105 degC, 20-pin SOP (PW20), Green (RoHS & no Sb/Br); Manufacturer: Texas Instruments; PartNumber: ADS1247IPW; # Input Channels: 3; Analog Voltage AV/DD(Max)(V): 5.25; Analog Voltage AV/DD(Min)(V): 2.7; Architecture: Delta-Sigma; Interface: Serial SPI; Resolution(Bits): 24; Sample Rate (max)(SPS): 2k; SubFamily: Precision ADC (<=10MSPS); DatasheetVersion: SBAS426G; PackageVersion: 4040064-5/G, 02/2011; PackageReference: PW20; PackageDescription: 20-Pin Plastic Small Outline, Body 6.5 x 4.4 mm, Pitch 0.65 mm; Supplier 1: Digi-Key; Supplier Part Number 1: TLC2578IDWG4-ND; Supplier 2: Mouser; Supplier Part Number 2: 595-TLC2578IDWG4; Digital Supply(Max)(V): 5.25; Digital Supply(Min)(V): 2.7; Eco-Plan: Green (RoHS & no Sb/Br); Mounting Technology: Surface Mount; Code_JEDEC: MO-153; ComponentLink1Description: Manufacturer URL; ComponentLink1URL: http://www.ti.com/; ComponentLink2Description: Datasheet; ComponentLink2URL: http://www.ti.com/general/docs/lit/getliterature.tsp?genericPartNumber=ADS1247&fileType=pdf; ComponentLink3Description: Package Specification; ComponentLink3URL: http://www.ti.com.cn/cn/lit/ml/mpds362/mpds362.pdf
footprint TI-PW20_N (SOP, 20-Leads, Body 6.5x4.4mm, Pitch 0.65mm, IPC Medium Density)
footprint TI-PW20_L (SOP, 20-Leads, Body 6.5x4.4mm, Pitch 0.65mm, IPC High Density)
footprint TI-PW20_M (SOP, 20-Leads, Body 6.5x4.4mm, Pitch 0.65mm, IPC Low Density)
pins: 1 DVDD (power) "Digital power supply", 2 DGND (power) "Digital ground", 3 CLK (in) "External clock input. Tie this pin to DGND to activate the internal oscillator.", 4 ~{RESET} (in) "Chip reset (active low). Returns all register values to reset values.", 5 REFP0/GPIO0 (io), 6 REFN0/GPIO1 (io), 7 VREFOUT (out) "Positive internal reference voltage output", 8 VREFCOM (out) "Negative internal reference voltage output. Connect this pin to AVSS when using a unipolar supply, or to the midvoltage of the power supply when using a bipolar supply.", 9 AIN0/IEXC (io), 10 AIN1/IEXC (io), 11 AIN2/IEXC/GPIO2 (io), 12 AIN3/IEXC/GPIO3 (io), 13 AVSS (power) "Negative analog power supply", 14 AVDD (power) "Positive analog power supply", 15 START (in) "Conversion start. See text for description of use.", 16 ~{CS} (in) "Chip select (active low)", 17 ~{DRDY} (out) "Data ready (active low)", 18 DOUT/~{DRDY} (hiz), 19 DIN (in) "Serial data input", 20 SCLK (in) "Serial clock input"

## ADS1247IPWR
designator U?
Low Noise, Precision 24-Bit ADC, -40 to 105 degC, 20-pin SOP (PW20), Green (RoHS & no Sb/Br); Manufacturer: Texas Instruments; PartNumber: ADS1247IPWR; # Input Channels: 3; Analog Voltage AV/DD(Max)(V): 5.25; Analog Voltage AV/DD(Min)(V): 2.7; Architecture: Delta-Sigma; Interface: Serial SPI; Resolution(Bits): 24; Sample Rate (max)(SPS): 2k; SubFamily: Precision ADC (<=10MSPS); DatasheetVersion: SBAS426G; PackageVersion: 4040064-5/G, 02/2011; PackageReference: PW20; PackageDescription: 20-Pin Plastic Small Outline, Body 6.5 x 4.4 mm, Pitch 0.65 mm; Supplier 1: Digi-Key; Supplier Part Number 1: 296-10298-5-ND; Supplier 2: Mouser; Supplier Part Number 2: 595-TLC3578IDW; Digital Supply(Max)(V): 5.25; Digital Supply(Min)(V): 2.7; Eco-Plan: Green (RoHS & no Sb/Br); Mounting Technology: Surface Mount; Code_JEDEC: MO-153; ComponentLink1Description: Manufacturer URL; ComponentLink1URL: http://www.ti.com/; ComponentLink2Description: Datasheet; ComponentLink2URL: http://www.ti.com/general/docs/lit/getliterature.tsp?genericPartNumber=ADS1247&fileType=pdf; ComponentLink3Description: Package Specification; ComponentLink3URL: http://www.ti.com.cn/cn/lit/ml/mpds362/mpds362.pdf
footprint TI-PW20_N (SOP, 20-Leads, Body 6.5x4.4mm, Pitch 0.65mm, IPC Medium Density)
footprint TI-PW20_L (SOP, 20-Leads, Body 6.5x4.4mm, Pitch 0.65mm, IPC High Density)
footprint TI-PW20_M (SOP, 20-Leads, Body 6.5x4.4mm, Pitch 0.65mm, IPC Low Density)
pins: 1 DVDD (power) "Digital power supply", 2 DGND (power) "Digital ground", 3 CLK (in) "External clock input. Tie this pin to DGND to activate the internal oscillator.", 4 ~{RESET} (in) "Chip reset (active low). Returns all register values to reset values.", 5 REFP0/GPIO0 (io), 6 REFN0/GPIO1 (io), 7 VREFOUT (out) "Positive internal reference voltage output", 8 VREFCOM (out) "Negative internal reference voltage output. Connect this pin to AVSS when using a unipolar supply, or to the midvoltage of the power supply when using a bipolar supply.", 9 AIN0/IEXC (io), 10 AIN1/IEXC (io), 11 AIN2/IEXC/GPIO2 (io), 12 AIN3/IEXC/GPIO3 (io), 13 AVSS (power) "Negative analog power supply", 14 AVDD (power) "Positive analog power supply", 15 START (in) "Conversion start. See text for description of use.", 16 ~{CS} (in) "Chip select (active low)", 17 ~{DRDY} (out) "Data ready (active low)", 18 DOUT/~{DRDY} (hiz), 19 DIN (in) "Serial data input", 20 SCLK (in) "Serial clock input"

## ADS1248IPW
designator U?
Precision 24-Bit ADC with Integrated Low Noise PGA (48 nV at a Gain of 128), -40 to 105 degC, 28-pin SOP (PW28), Green (RoHS & no Sb/Br); Manufacturer: Texas Instruments; PartNumber: ADS1248IPW; # Input Channels: 7; Analog Voltage AV/DD(Max)(V): 5.25; Analog Voltage AV/DD(Min)(V): 2.7; Architecture: Delta-Sigma; Interface: Serial SPI; Resolution(Bits): 24; Sample Rate (max)(SPS): 2k; SubFamily: Precision ADC (<=10MSPS); DatasheetVersion: SBAS426G; PackageVersion: 4040064-7/G, 02/2011; PackageReference: PW28; PackageDescription: 28-Pin Plastic Small Outline, Body 9.7 x 4.4 mm, Pitch 0.65 mm; Supplier 1: Digi-Key; Supplier Part Number 1: TLC3578IDWG4-ND; Supplier 2: Mouser; Supplier Part Number 2: 595-TLC3578IDWG4; Digital Supply(Max)(V): 5.25; Digital Supply(Min)(V): 2.7; Eco-Plan: Green (RoHS & no Sb/Br); Mounting Technology: Surface Mount; Code_JEDEC: MO-153; ComponentLink1Description: Manufacturer URL; ComponentLink1URL: http://www.ti.com/; ComponentLink2Description: Datasheet; ComponentLink2URL: http://www.ti.com/general/docs/lit/getliterature.tsp?genericPartNumber=ADS1248&fileType=pdf; ComponentLink3Description: Package Specification; ComponentLink3URL: http://www.ti.com/litv/pdf/mpds364
footprint TI-PW28_N (SOP, 28-Leads, Body 9.7x4.4mm, Pitch 0.65mm, IPC Medium Density)
footprint TI-PW28_L (SOP, 28-Leads, Body 9.7x4.4mm, Pitch 0.65mm, IPC High Density)
footprint TI-PW28_M (SOP, 28-Leads, Body 9.7x4.4mm, Pitch 0.65mm, IPC Low Density)
pins: 1 DVDD (power) "Digital power supply", 2 DGND (power) "Digital ground", 3 CLK (in) "External clock input. Tie this pin to DGND to activate the internal oscillator.", 4 ~{RESET} (in) "Chip reset (active low). Returns all register values to reset values.", 5 REFP0/GPIO0 (io) "Positive external reference input 0, or general-purpose digital input/output pin 0", 6 REFN0/GPIO1 (io) "Negative external reference 0 input, or general-purpose digital input/output pin 1", 7 REFP1 (in) "Positive external reference 1 input", 8 REFN1 (in) "Negative external reference 1 input", 9 VREFOUT (out) "Positive internal reference voltage output", 10 VREFCOM (out) "Negative internal reference voltage output. Connect this pin to AVSS when using a unipolar supply, or to the midvoltage of the power supply when using a bipolar supply.", 11 AIN0/IEXC (io) "Analog input 0, optional excitation current output", 12 AIN1/IEXC (io) "Analog input 1, optional excitation current output", 13 AIN4/IEXC/GPIO4 (io) "Analog input 4, optional excitation current output, or general-purpose digital input/output pin 4", 14 AIN5/IEXC/GPIO5 (io) "Analog input 5, optional excitation current output, or general-purpose digital input/output pin 5", 15 AIN6/IEXC/GPIO6 (io) "Analog input 6, optional excitation current output, or general-purpose digital input/output pin 6", 16 AIN7/IEXC/GPIO7 (io) "Analog input 7, optional excitation current output, or general-purpose digital input/output pin 7", 17 AIN2/IEXC/GPIO2 (io) "Analog input 2, optional excitation current output, or general-purpose digital input/output pin 2", 18 AIN3/IEXC/GPIO3 (io) "Analog input 3, optional excitation current output, or general-purpose digital input/output pin 3", 19 IEXC2 (out) "Excitation current output 2", 20 IEXC1 (out) "Excitation current output 1", 21 AVSS (power) "Negative analog power supply", 22 AVDD (power) "Positive analog power supply", 23 START (in) "Conversion start. See text for complete description.", 24 ~{CS} (in) "Chip select (active low)", 25 ~{DRDY} (out) "Data ready (active low)", 26 DOUT/~{DRDY} (hiz) "Serial data out output, or data out combined with data ready (active low when DRDY function enabled)", 27 DIN (in) "Serial data input", 28 SCLK (in) "Serial clock input"

## ADS1248IPWR
designator U?
Precision 24-Bit ADC with Integrated Low Noise PGA (48 nV at a Gain of 128), -40 to 105 degC, 28-pin SOP (PW28), Green (RoHS & no Sb/Br); Manufacturer: Texas Instruments; PartNumber: ADS1248IPWR; # Input Channels: 7; Analog Voltage AV/DD(Max)(V): 5.25; Analog Voltage AV/DD(Min)(V): 2.7; Architecture: Delta-Sigma; Interface: Serial SPI; Resolution(Bits): 24; Sample Rate (max)(SPS): 2k; SubFamily: Precision ADC (<=10MSPS); DatasheetVersion: SBAS426G; PackageVersion: 4040064-7/G, 02/2011; PackageReference: PW28; PackageDescription: 28-Pin Plastic Small Outline, Body 9.7 x 4.4 mm, Pitch 0.65 mm; Supplier 1: Digi-Key; Supplier Part Number 1: TLC3578IDWR-ND; Supplier 2: Mouser; Supplier Part Number 2: 595-TLC3578IDWR; Digital Supply(Max)(V): 5.25; Digital Supply(Min)(V): 2.7; Eco-Plan: Green (RoHS & no Sb/Br); Mounting Technology: Surface Mount; Code_JEDEC: MO-153; ComponentLink1Description: Manufacturer URL; ComponentLink1URL: http://www.ti.com/; ComponentLink2Description: Datasheet; ComponentLink2URL: http://www.ti.com/general/docs/lit/getliterature.tsp?genericPartNumber=ADS1248&fileType=pdf; ComponentLink3Description: Package Specification; ComponentLink3URL: http://www.ti.com/litv/pdf/mpds364
footprint TI-PW28_N (SOP, 28-Leads, Body 9.7x4.4mm, Pitch 0.65mm, IPC Medium Density)
footprint TI-PW28_L (SOP, 28-Leads, Body 9.7x4.4mm, Pitch 0.65mm, IPC High Density)
footprint TI-PW28_M (SOP, 28-Leads, Body 9.7x4.4mm, Pitch 0.65mm, IPC Low Density)
pins: 1 DVDD (power) "Digital power supply", 2 DGND (power) "Digital ground", 3 CLK (in) "External clock input. Tie this pin to DGND to activate the internal oscillator.", 4 ~{RESET} (in) "Chip reset (active low). Returns all register values to reset values.", 5 REFP0/GPIO0 (io) "Positive external reference input 0, or general-purpose digital input/output pin 0", 6 REFN0/GPIO1 (io) "Negative external reference 0 input, or general-purpose digital input/output pin 1", 7 REFP1 (in) "Positive external reference 1 input", 8 REFN1 (in) "Negative external reference 1 input", 9 VREFOUT (out) "Positive internal reference voltage output", 10 VREFCOM (out) "Negative internal reference voltage output. Connect this pin to AVSS when using a unipolar supply, or to the midvoltage of the power supply when using a bipolar supply.", 11 AIN0/IEXC (io) "Analog input 0, optional excitation current output", 12 AIN1/IEXC (io) "Analog input 1, optional excitation current output", 13 AIN4/IEXC/GPIO4 (io) "Analog input 4, optional excitation current output, or general-purpose digital input/output pin 4", 14 AIN5/IEXC/GPIO5 (io) "Analog input 5, optional excitation current output, or general-purpose digital input/output pin 5", 15 AIN6/IEXC/GPIO6 (io) "Analog input 6, optional excitation current output, or general-purpose digital input/output pin 6", 16 AIN7/IEXC/GPIO7 (io) "Analog input 7, optional excitation current output, or general-purpose digital input/output pin 7", 17 AIN2/IEXC/GPIO2 (io) "Analog input 2, optional excitation current output, or general-purpose digital input/output pin 2", 18 AIN3/IEXC/GPIO3 (io) "Analog input 3, optional excitation current output, or general-purpose digital input/output pin 3", 19 IEXC2 (out) "Excitation current output 2", 20 IEXC1 (out) "Excitation current output 1", 21 AVSS (power) "Negative analog power supply", 22 AVDD (power) "Positive analog power supply", 23 START (in) "Conversion start. See text for complete description.", 24 ~{CS} (in) "Chip select (active low)", 25 ~{DRDY} (out) "Data ready (active low)", 26 DOUT/~{DRDY} (hiz) "Serial data out output, or data out combined with data ready (active low when DRDY function enabled)", 27 DIN (in) "Serial data input", 28 SCLK (in) "Serial clock input"

## ADS1250U
designator U?
20-Bit Data Acquisition System, -40 to 85 degC, 16-pin SOIC (DW16), Green (RoHS & no Sb/Br); Manufacturer: Texas Instruments; PartNumber: ADS1250U; # Input Channels: 1; Analog Voltage AV/DD(Max)(V): 5.25; Analog Voltage AV/DD(Min)(V): 4.75; Architecture: Delta-Sigma; ENOB(Bits): 18; Interface: Serial SPI; Resolution(Bits): 20; Sample Rate (max)(SPS): 25k; SubFamily: Precision ADC (<=10MSPS); DatasheetVersion: SBAS114; PackageVersion: 4040000-2/G, 01/2011; PackageReference: DW16; PackageDescription: 16-Pin Plastic Small Outline, Body 10.30 x 7.50 mm, Pitch 1.27 mm; Supplier 1: Digi-Key; Supplier Part Number 1: TLC3578IDWRG4-ND; Supplier 2: Mouser; Supplier Part Number 2: 595-TLC3578IDWRG4; Digital Supply(Max)(V): 5.25; Digital Supply(Min)(V): 4.75; Eco-Plan: Green (RoHS & no Sb/Br); Mounting Technology: Surface Mount; Code_JEDEC: MS-013; ComponentLink1Description: Manufacturer URL; ComponentLink1URL: http://www.ti.com/; ComponentLink2Description: Datasheet; ComponentLink2URL: http://www.ti.com/general/docs/lit/getliterature.tsp?genericPartNumber=ADS1250&fileType=pdf; ComponentLink3Description: Package Specification; ComponentLink3URL: http://www.ti.com/litv/pdf/msoi003g
footprint TI-DW16_N (SOIC, 16-Leads, Body 10.3x7.5mm, Pitch 1.27mm, IPC Medium Density)
footprint TI-DW16_L (SOIC, 16-Leads, Body 10.3x7.5mm, Pitch 1.27mm, IPC High Density)
footprint TI-DW16_M (SOIC, 16-Leads, Body 10.3x7.5mm, Pitch 1.27mm, IPC Low Density)
pins: 1 VIN+ (in) "Analog Input: Positive Input of the Differential Analog Input.", 2 VIN- (in) "Analog Input: Negative Input of the Differential Analog Input.", 3 AGND (power) "Analog Input: Analog Ground.", 4 VS+ (power) "Analog Input: Analog Power Supply Voltage, +5V.", 5 VREF (in) "Analog Input: Reference Voltage Input.", 6 ~{DSYNC} (in) "Digital Input: Data Synchronization. A falling edge on this input will reset the modulator count and place the modulator in a hold state. The modulator is released from the hold state on the rising edge of D\S\Y\N\C\. This (See Datasheet)", 7 VD+ (power) "Digital Input: Digital Power Supply Voltage, +5V.", 8 DGND (power) "Digital Input: Digital Ground.", 9 DOUT (hiz) "Digital Output: Serial Data Output. The serial data is clocked out of the serial data output shift register through this pin. The pin is driven when C\S\ is LOW, and high impedance when C\S\ is HIGH.", 10 SCLK (in) "Digital Input: Serial Clock. The serial clock is in the form of a CMOS-compatible clock. The serial clock can operate up to the device’s system clock frequency. The serial clock can be either a free-running clock o(See Datasheet)", 11 CLK (in) "Digital Input: Device System Clock. The system clock is in the form of a CMOS-compatible clock.", 12 ~{DRDY} (out) "Digital Output: Data Ready. A falling edge on this output indicates that a new output word is available from the ADS1250 data output register", 13 ~{CS} (in) "Digital Input: Chip Select. Active LOW logic input used to enable serial data output from the ADS1250. C\S\ controls the state of the DOUT pin. If C\S\ is HIGH, DOUT is high impedance; if C\S\ is LOW, DOUT drives the bus. (See Datasheet)", 14 G0 (in) "Digital Input: Gain Selection Control (LSB).", 15 G1 (in) "Digital Input: Gain Selection Control (MSB).", 16 DGND (power) "Digital Input: Digital Ground."